# Altium footprint library PcbLib1.PcbLib: 1 footprints
Each footprint in its own frame and in the unit in brackets; x right, y up, seen from the top. Pads: shape width x height; smd on the part's side, far side on the other; paste and mask are expansions set on the pad; w line width, h text height; cw(c..) or ccw(c..) is an arc to the next point about the centre after c.
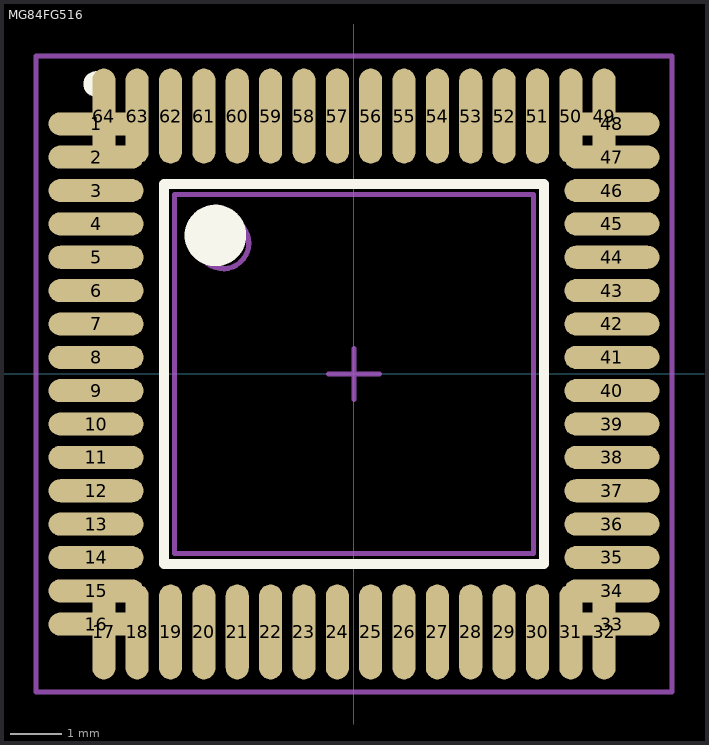
[diagram p0: the footprint, top view; thin cyan lines are the x and y axes]

## MG84FG516 [mm]
height 2.45
pads (64):
  oval 1.85x0.45 smd: 1(-5.025,4.875) 2(-5.025,4.225) 3(-5.025,3.575) 4(-5.025,2.925) 5(-5.025,2.275) 6(-5.025,1.625) 7(-5.025,0.975) 8(-5.025,0.325) 9(-5.025,-0.325) 10(-5.025,-0.975) 11(-5.025,-1.625) 12(-5.025,-2.275) 13(-5.025,-2.925) 14(-5.025,-3.575) 15(-5.025,-4.225) 16(-5.025,-4.875) 33(5.025,-4.875) 34(5.025,-4.225) 35(5.025,-3.575) 36(5.025,-2.925) 37(5.025,-2.275) 38(5.025,-1.625) 39(5.025,-0.975) 40(5.025,-0.325) 41(5.025,0.325) 42(5.025,0.975) 43(5.025,1.625) 44(5.025,2.275) 45(5.025,2.925) 46(5.025,3.575) 47(5.025,4.225) 48(5.025,4.875)
  oval 0.45x1.85 smd: 17(-4.875,-5.025) 18(-4.225,-5.025) 19(-3.575,-5.025) 20(-2.925,-5.025) 21(-2.275,-5.025) 22(-1.625,-5.025) 23(-0.975,-5.025) 24(-0.325,-5.025) 25(0.325,-5.025) 26(0.975,-5.025) 27(1.625,-5.025) 28(2.275,-5.025) 29(2.925,-5.025) 30(3.575,-5.025) 31(4.225,-5.025) 32(4.875,-5.025) 49(4.875,5.025) 50(4.225,5.025) 51(3.575,5.025) 52(2.925,5.025) 53(2.275,5.025) 54(1.625,5.025) 55(0.975,5.025) 56(0.325,5.025) 57(-0.325,5.025) 58(-0.975,5.025) 59(-1.625,5.025) 60(-2.275,5.025) 61(-2.925,5.025) 62(-3.575,5.025) 63(-4.225,5.025) 64(-4.875,5.025)
Top Overlay:
  circle w0.6: c-2.7,2.7 r0.3
  circle w0.25: c-5.025,5.65 r0.125
  lines w0.2: -3.7,-3.7 3.7,-3.7 3.7,3.7 -3.7,3.7 -3.7,-3.7
Mechanical 13:
  circle w0.1: c-2.55,2.55 r0.5
  lines w0.1: -3.5,-3.5 3.5,-3.5 3.5,3.5 -3.5,3.5 -3.5,-3.5
Mechanical 15:
  lines w0.1: -0.5,0 0.5,0 ; 0,-0.5 0,0.5 ; -6.2,-6.2 6.2,-6.2 6.2,6.2 -6.2,6.2 -6.2,-6.2
3D body: height 2.45, standoff 0.25, extent -3.5,-3.5 3.5,3.5